# Altium schematic symbol library 3.2   - 跳线.SchLib: 1 symbol
Pins are listed as number, name and electrical type; pins without a type are passive.

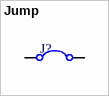
[diagram p0: symbol Jump]

## Jump
designator J?  (value not drawn)
跳线; 版权归属: 源创客; BOM名称: 跳线; 学习资源: www.ooocke.com
footprint Wire - 3mm (直接：0.5mm，脚距：3mm)
footprint Wire - 4mm (直接：0.5mm，脚距：4mm)
footprint Wire - 5mm (直接：0.5mm，脚距：5mm)
footprint Wire - 6mm (直接：0.5mm，脚距：6mm)
footprint Wire - 7mm (直接：0.5mm，脚距：7mm)
footprint Wire - 8mm (直接：0.5mm，脚距：8mm)
footprint Wire - 9mm (直接：0.5mm，脚距：9mm)
footprint Wire - 10mm (直接：0.5mm，脚距：10mm)
footprint Wire - 11mm (直接：0.5mm，脚距：11mm)
footprint Wire - 12mm (直接：0.5mm，脚距：12mm)
footprint Wire - 13mm (直接：0.5mm，脚距：13mm)
footprint Wire - 14mm (直接：0.5mm，脚距：14mm)
footprint Wire - 15mm (直接：0.5mm，脚距：15mm)
footprint Wire - 16mm (直接：0.5mm，脚距：16mm)
footprint Wire - 17mm (直接：0.5mm，脚距：17mm)
footprint Wire - 18mm (直接：0.5mm，脚距：18mm)
footprint Wire - 19mm (直接：0.5mm，脚距：19mm)
footprint Wire - 20mm (直接：0.5mm，脚距：20mm)
footprint Wire - 21mm (直接：0.5mm，脚距：21mm)
footprint Wire - 22mm (直接：0.5mm，脚距：22mm)
footprint Wire - 23mm (直接：0.5mm，脚距：23mm)
footprint Wire - 24mm (直接：0.5mm，脚距：24mm)
footprint Wire - 25mm (直接：0.5mm，脚距：25mm)
footprint Wire - 26mm (直接：0.5mm，脚距：26mm)
footprint Wire - 27mm (直接：0.5mm，脚距：27mm)
footprint Wire - 28mm (直接：0.5mm，脚距：28mm)
footprint Wire - 29mm (直接：0.5mm，脚距：29mm)
footprint Wire - 30mm (直接：0.5mm，脚距：30mm)
footprint Wire - 31mm (直接：0.5mm，脚距：31mm)
footprint Wire - 32mm (直接：0.5mm，脚距：32mm)
footprint Wire - 33mm (直接：0.5mm，脚距：33mm)
footprint Wire - 34mm (直接：0.5mm，脚距：34mm)
footprint Wire - 35mm (直接：0.5mm，脚距：35mm)
footprint Wire - 36mm (直接：0.5mm，脚距：36mm)
footprint Wire - 37mm (直接：0.5mm，脚距：37mm)
footprint Wire - 38mm (直接：0.5mm，脚距：38mm)
footprint Wire - 39mm (直接：0.5mm，脚距：39mm)
footprint Wire - 40mm (直接：0.5mm，脚距：40mm)
footprint Wire - 41mm (直接：0.5mm，脚距：41mm)
footprint Wire - 42mm (直接：0.5mm，脚距：42mm)
footprint Wire - 43mm (直接：0.5mm，脚距：43mm)
footprint Wire - 44mm (直接：0.5mm，脚距：44mm)
footprint Wire - 45mm (直接：0.5mm，脚距：45mm)
footprint Wire - 46mm (直接：0.5mm，脚距：46mm)
footprint Wire - 47mm (直接：0.5mm，脚距：47mm)
footprint Wire - 48mm (直接：0.5mm，脚距：48mm)
footprint Wire - 49mm (直接：0.5mm，脚距：49mm)
footprint Wire - 50mm (直接：0.5mm，脚距：50mm)
pins: 1, 2